# EAGLE library part BUTTON (library StdBxLibrary)
DPDT Button, 9x9mm body with round 7.4mm dia cap Momentary C&K # PVA2 OA H1 1.7N V2 Digi-Key # 401-1147-ND Push-on / Push-Off C&K # PVA2 EE H1 1.7N V2 Digi-Key # 401-1140-ND DPDT Button, 9x9mm body with rect 12x6mm cap Momentary C&K # PVA2 OA H1 1.7N V2 Digi-Key # 401-1147-ND Push-on / Push-Off C&K # PVA2 EE H1 1.7N V2 Digi-Key # 401-1140-ND Cap, round 7.4 mm C&K PV GY (Gray), PV RD (Red), PV BK (Black), PV WH (White) Digi-Key # 401-1149-ND (Gray), 401-1150-ND (Red), 401-1148-ND (Black), 401-1151-ND (White) Cap, rectangular 12x6 mm C&K PE GY (Gray), PE RD (Red), PE BK (Black), PE WH (White) Digi-Key # 401-1153-ND (Gray), 401-1154-ND (Red), 401-1152-ND (Black), 401-1155-ND (White) DPDT Button, 7x7mm body with round 5.9mm dia cap Both momentary and push-on / push-off are readily available on eBay but not Digi-Key or Mouser. Specs on eBay are minimal. Typically these say 16mm tall, but I measure 16.5mm. Some have taller caps and measure 19.5mm. Caps are available with the switches only.
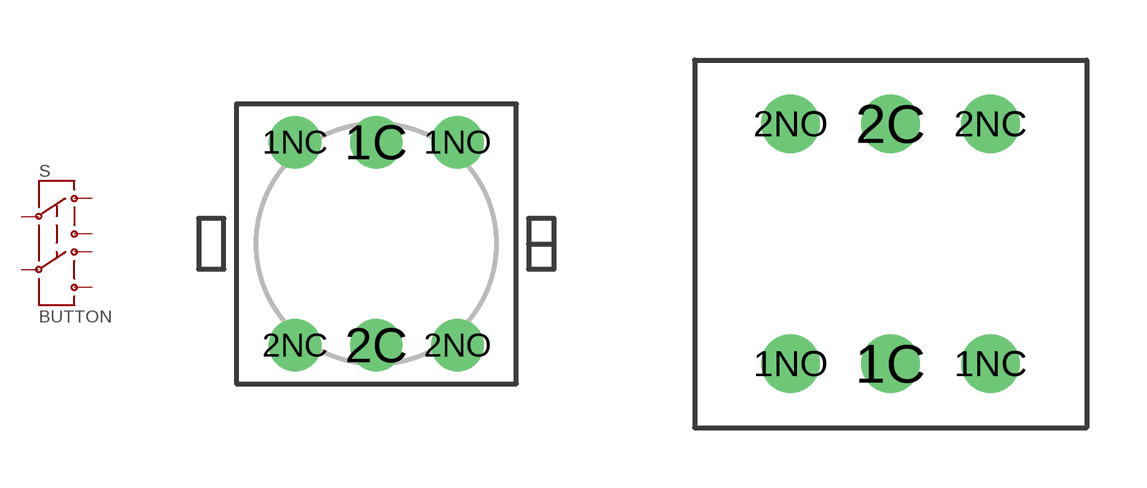
[diagram p0: symbol with the pads of 7X7_BUTTON; footprints 7X7_BUTTON, 9X9_BUTTON_ROUND]

Designator prefix S

## BUTTON-7X7BODY-6MM-ROUNDCAP  [7X7_BUTTON]
1C  1C
1NC  1NC
1NO  1NO
2C  2C
2NC  2NC
2NO  2NO

## BUTTON-9X9BODY-7.5MM-ROUNDCAP  [9X9_BUTTON_ROUND]
Pads as for 7X7_BUTTON

## BUTTON-9X9BODY-RECTCAP-H  [9X9_BUTTON_RECT_H]
Pads as for 7X7_BUTTON

## BUTTON-9X9BODY-RECTCAP-V  [9X9_BUTTON_RECT_V]
Pads as for 7X7_BUTTON

## Footprint 7X7_BUTTON (pad centres in mm)
drill 0.8: 1C 0,2.54; 1NC -2.032,2.54; 1NO 2.032,2.54; 2C 0,-2.54; 2NC -2.032,-2.54; 2NO 2.032,-2.54

## Footprint 9X9_BUTTON_ROUND (pad centres in mm)
drill 0.95: 1C 0,-3; 1NC 2.5,-3; 1NO -2.5,-3; 2C 0,3; 2NC 2.5,3; 2NO -2.5,3

## Footprint 9X9_BUTTON_RECT_H (pad centres in mm)
drill 0.95: 1C 0,-3; 1NC 2.5,-3; 1NO -2.5,-3; 2C 0,3; 2NC 2.5,3; 2NO -2.5,3

## Footprint 9X9_BUTTON_RECT_V (pad centres in mm)
drill 0.95: 1C 0,-3; 1NC 2.5,-3; 1NO -2.5,-3; 2C 0,3; 2NC 2.5,3; 2NO -2.5,3